# Altium schematic symbol library 10 Pin Connector.SchLib: 1 symbol
Pins are listed as number, name and electrical type; pins without a type are passive.

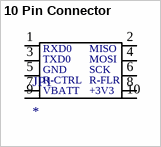
[diagram p0: symbol 10 Pin Connector]

## 10 Pin Connector
designator JP1
footprint 10 Pin Connector
pins: 1, 2, 3, 4, 5, 6, 7, 8, 9, 10
text: RXD0; MISO; TXD0; MOSI; GND; SCK; R-CTRL; R-FLR; VBATT; +3V3